# Altium footprint library Cap_Rubycon_35ZLH100MEFC6_3X11_eec_MFG.PcbLib: 1 footprints
Each footprint in its own frame and in the unit in brackets; x right, y up, seen from the top. Pads: shape width x height; smd on the part's side, far side on the other; paste and mask are expansions set on the pad; w line width, h text height; cw(c..) or ccw(c..) is an arc to the next point about the centre after c.
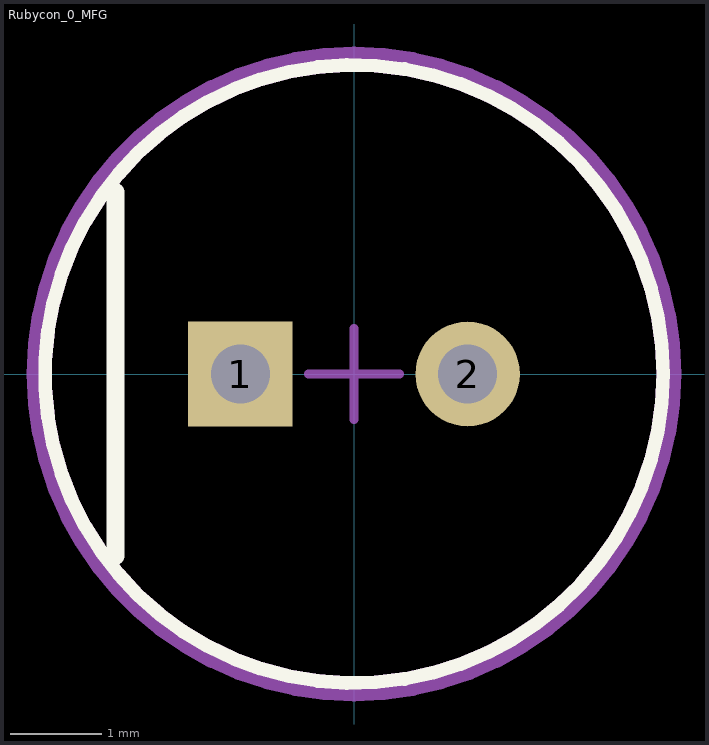
[diagram p0: the footprint, top view; thin cyan lines are the x and y axes]

## Rubycon_0_MFG [mm]
pads (2):
  rect 1.15x1.15 hole 0.65 paste-1000 mask+0: 1(-1.25,0)
  round 1.15 hole 0.65 paste-1000 mask+0: 2(1.25,0)
Top Overlay:
  circle w0.15: c0,0 r3.4
  lines w0.2: -2.625,-2 -2.625,2
Mechanical 10:
  text ".Designator" at 0,0.188 h1
Mechanical 12:
  circle w0.15: c0,0 r3.4
Mechanical 15:
  lines w0.1: -0.5,0 0.5,0 ; 0,-0.5 0,0.5
  lines w0.2: -3.5,0 cw(c0,0) 3.5,0 cw(c0,0) -3.5,0 ; -3.5,0 -3.5,0
3D body "Cap_Rubycon_35ZLH100MEFC6_3X11_eec.STEP": height 0.25, standoff 0, extent -3.5,-3.5 3.5,3.5